# Altium footprint library Linear Technology PMIC-Switching Reg LT1074-LT8705.PcbLib: 146 footprints (part 6 of 10)
Each footprint in its own frame and in the unit in brackets; x right, y up, seen from the top. Pads: shape width x height; smd on the part's side, far side on the other; paste and mask are expansions set on the pad; w line width, h text height; cw(c..) or ccw(c..) is an arc to the next point about the centre after c.
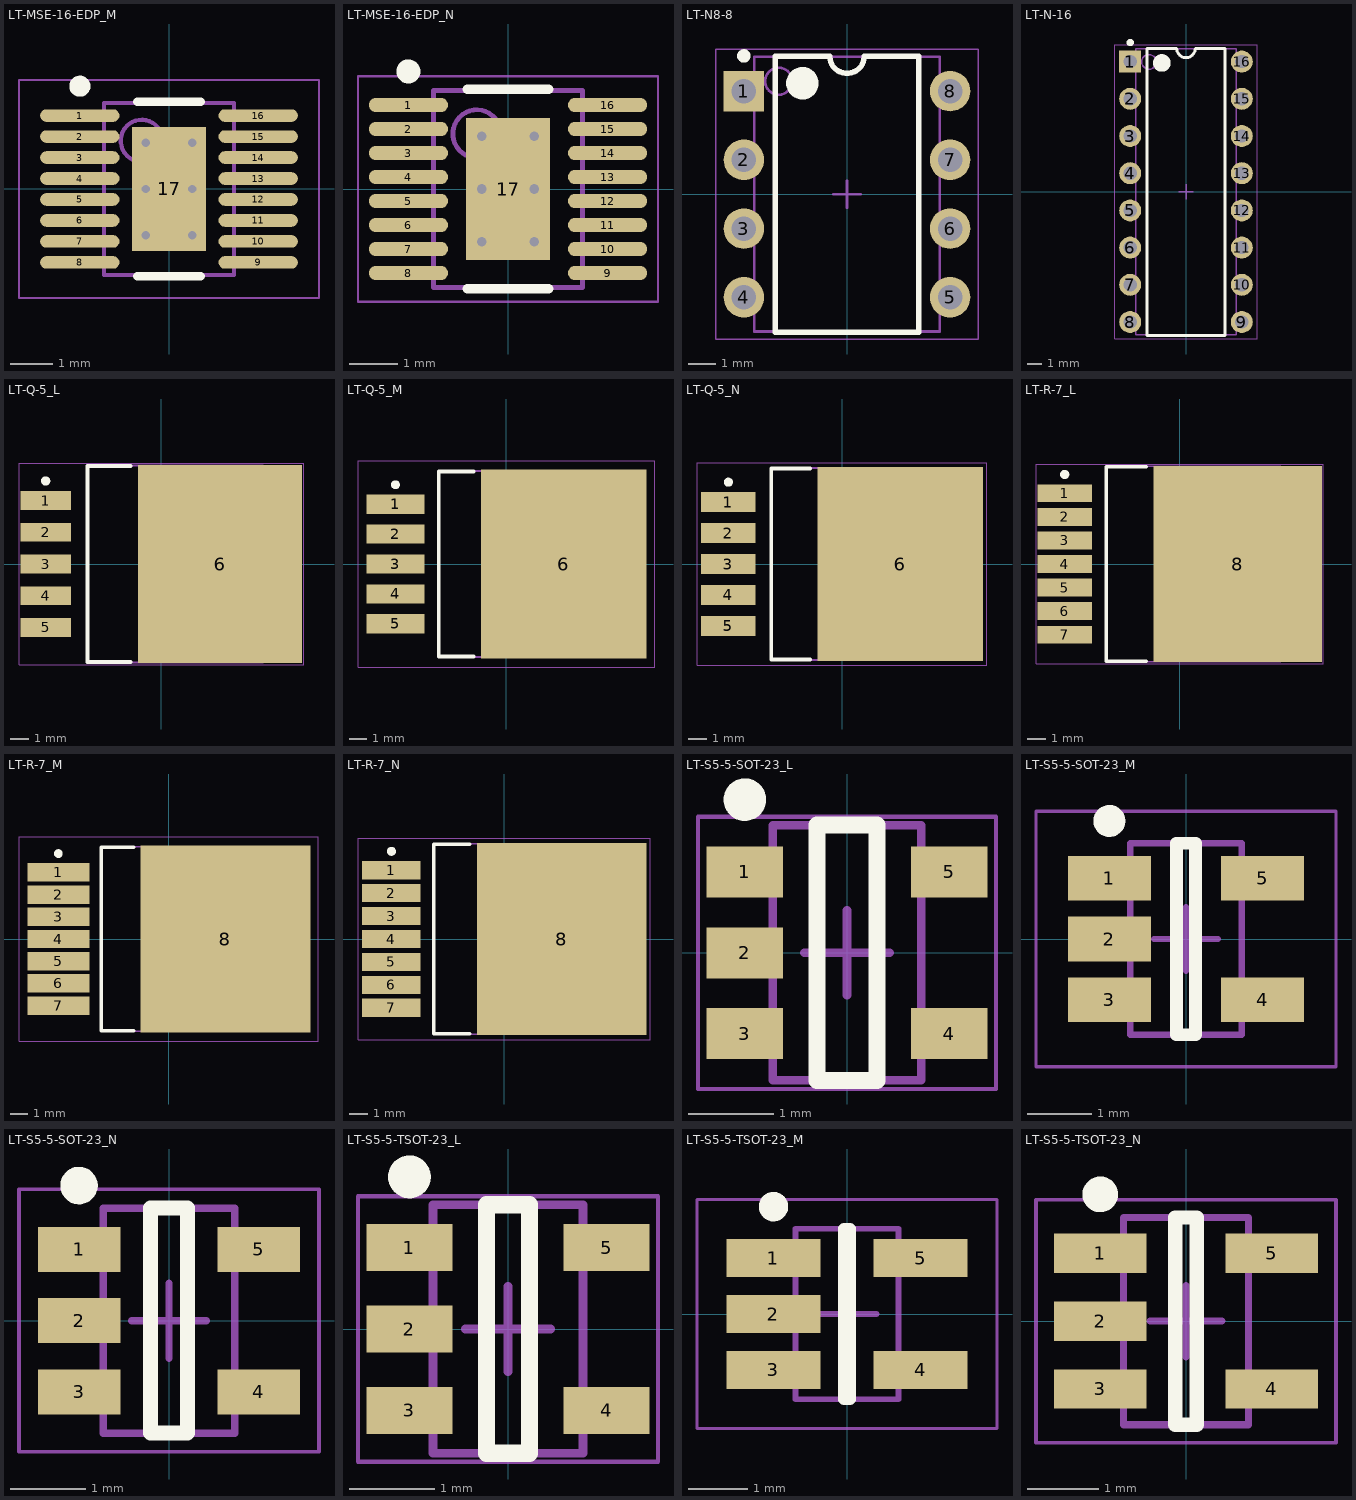
[diagram p5: the footprints below, top view; thin cyan lines are the x and y axes]

## LT-MSE-16-EDP_M [mm] "SOP, 16-Leads, Body 4.1x3.1mm, Pitch 0.5mm, Thermal Pad 2.95x1.76mm, IPC Low Density"
height 1.1
pads (17):
  oval 1.89x0.3 smd: 1(-2.125,1.75) 2(-2.125,1.25) 3(-2.125,0.75) 4(-2.125,0.25) 5(-2.125,-0.25) 6(-2.125,-0.75) 7(-2.125,-1.25) 8(-2.125,-1.75) 9(2.125,-1.75) 10(2.125,-1.25) 11(2.125,-0.75) 12(2.125,-0.25) 13(2.125,0.25) 14(2.125,0.75) 15(2.125,1.25) 16(2.125,1.75)
  rect 1.76x2.95 smd: 17(0,0)
via 0.55,-1.1 diameter 0.5 hole 0.2
via -0.55,-1.1 diameter 0.5 hole 0.2
via 0.55,0 diameter 0.5 hole 0.2
via -0.55,0 diameter 0.5 hole 0.2
via 0.55,1.1 diameter 0.5 hole 0.2
via -0.55,1.1 diameter 0.5 hole 0.2
Top Overlay:
  circle w0.25: c-2.125,2.45 r0.125
  lines w0.2: -0.755,-2.075 0.755,-2.075 ; -0.755,2.075 0.755,2.075
Mechanical 13:
  circle w0.1: c-0.65,1.15 r0.5
  lines w0.1: -1.55,-2.05 -1.55,2.05 1.55,2.05 1.55,-2.05 -1.55,-2.05
Mechanical 15:
  lines w0.05: -3.575,-2.6 -3.575,2.6 3.575,2.6 3.575,-2.6 -3.575,-2.6
  lines w0.1: -0.5,0 0.5,0 ; 0,-0.5 0,0.5
3D body: height 1.1, standoff 0.05, extent -1.55,-2.05 1.55,2.05

## LT-MSE-16-EDP_N [mm] "SOP, 16-Leads, Body 4.1x3.1mm, Pitch 0.5mm, Thermal Pad 2.95x1.76mm, IPC Medium Density"
height 1.1
pads (17):
  oval 1.65x0.3 smd: 1(-2.075,1.75) 2(-2.075,1.25) 3(-2.075,0.75) 4(-2.075,0.25) 5(-2.075,-0.25) 6(-2.075,-0.75) 7(-2.075,-1.25) 8(-2.075,-1.75) 9(2.075,-1.75) 10(2.075,-1.25) 11(2.075,-0.75) 12(2.075,-0.25) 13(2.075,0.25) 14(2.075,0.75) 15(2.075,1.25) 16(2.075,1.75)
  rect 1.76x2.95 smd: 17(0,0)
via -0.55,1.1 diameter 0.5 hole 0.2
via 0.55,1.1 diameter 0.5 hole 0.2
via -0.55,0 diameter 0.5 hole 0.2
via 0.55,0 diameter 0.5 hole 0.2
via -0.55,-1.1 diameter 0.5 hole 0.2
via 0.55,-1.1 diameter 0.5 hole 0.2
Top Overlay:
  circle w0.25: c-2.075,2.45 r0.125
  lines w0.2: -0.851,-2.075 0.851,-2.075 ; -0.851,2.075 0.851,2.075
Mechanical 13:
  circle w0.1: c-0.65,1.15 r0.5
  lines w0.1: -1.55,-2.05 -1.55,2.05 1.55,2.05 1.55,-2.05 -1.55,-2.05
Mechanical 15:
  lines w0.05: -3.125,-2.35 -3.125,2.35 3.125,2.35 3.125,-2.35 -3.125,-2.35
  lines w0.1: -0.5,0 0.5,0 ; 0,-0.5 0,0.5
3D body: height 1.1, standoff 0.05, extent -1.55,-2.05 1.55,2.05

## LT-N8-8 [mm] "DIP, 8-Leads, Body 10.15x6.85mm, Pitch 2.54mm"
height 3.94
pads (8):
  rect 1.5x1.5 hole 0.9: 1(-3.81,3.81)
  round 1.5 hole 0.9: 2(-3.81,1.27) 3(-3.81,-1.27) 4(-3.81,-3.81) 5(3.81,-3.81) 6(3.81,-1.27) 7(3.81,1.27) 8(3.81,3.81)
Top Overlay:
  circle w0.6: c-1.65,4.1 r0.3
  circle w0.25: c-3.81,5.11 r0.125
  lines w0.2: -2.65,-5.1 2.65,-5.1 2.65,5.1 0.635,5.1 cw(c0,5.1) -0.635,5.1 -2.65,5.1 -2.65,-5.1
Mechanical 13:
  circle w0.1: c-2.525,4.175 r0.5
  lines w0.1: -3.425,-5.075 3.425,-5.075 3.425,5.075 -3.425,5.075 -3.425,-5.075
Mechanical 15:
  lines w0.05: -4.85,-5.35 4.85,-5.35 4.85,5.35 -4.85,5.35 -4.85,-5.35
  lines w0.1: -0.5,0 0.5,0 ; 0,-0.5 0,0.5
3D body: height 3.94, standoff 0.51, extent -3.425,-5.075 3.425,5.075
3D body: height 0, standoff -1.6, extent 3.675,3.45 3.945,4.17
3D body: height 2.36, standoff 2.09, extent 3.425,3.31 3.945,4.31
3D body: height 2.09, standoff 0, extent 3.675,3.31 3.945,4.31
3D body: height 0, standoff -1.6, extent 3.675,0.91 3.945,1.63
3D body: height 2.36, standoff 2.09, extent 3.425,0.77 3.945,1.77
3D body: height 2.09, standoff 0, extent 3.675,0.77 3.945,1.77
3D body: height 0, standoff -1.6, extent 3.675,-1.63 3.945,-0.91
3D body: height 2.36, standoff 2.09, extent 3.425,-1.77 3.945,-0.77
3D body: height 2.09, standoff 0, extent 3.675,-1.77 3.945,-0.77
3D body: height 0, standoff -1.6, extent 3.675,-4.17 3.945,-3.45
3D body: height 2.36, standoff 2.09, extent 3.425,-4.31 3.945,-3.31
3D body: height 2.09, standoff 0, extent 3.675,-4.31 3.945,-3.31
3D body: height 0, standoff -1.6, extent -3.945,-4.17 -3.675,-3.45
3D body: height 2.36, standoff 2.09, extent -3.945,-4.31 -3.425,-3.31
3D body: height 2.09, standoff 0, extent -3.945,-4.31 -3.675,-3.31
3D body: height 0, standoff -1.6, extent -3.945,-1.63 -3.675,-0.91
3D body: height 2.36, standoff 2.09, extent -3.945,-1.77 -3.425,-0.77
3D body: height 2.09, standoff 0, extent -3.945,-1.77 -3.675,-0.77
3D body: height 0, standoff -1.6, extent -3.945,0.91 -3.675,1.63
3D body: height 2.36, standoff 2.09, extent -3.945,0.77 -3.425,1.77
3D body: height 2.09, standoff 0, extent -3.945,0.77 -3.675,1.77
3D body: height 0, standoff -1.6, extent -3.945,3.45 -3.675,4.17
3D body: height 2.36, standoff 2.09, extent -3.945,3.31 -3.425,4.31
3D body: height 2.09, standoff 0, extent -3.945,3.31 -3.675,4.31

## LT-N-16 [mm] "DIP, 16-Leads, Body 19.56x6.48mm, Pitch 2.54mm"
height 3.94
pads (16):
  rect 1.5x1.5 hole 0.9: 1(-3.81,8.89)
  round 1.5 hole 0.9: 2(-3.81,6.35) 3(-3.81,3.81) 4(-3.81,1.27) 5(-3.81,-1.27) 6(-3.81,-3.81) 7(-3.81,-6.35) 8(-3.81,-8.89) 9(3.81,-8.89) 10(3.81,-6.35) 11(3.81,-3.81) 12(3.81,-1.27) 13(3.81,1.27) 14(3.81,3.81) 15(3.81,6.35) 16(3.81,8.89)
Top Overlay:
  circle w0.25: c-3.81,10.19 r0.125
  circle w0.6: c-1.65,8.8 r0.3
  lines w0.2: -2.65,-9.8 -2.65,9.8 -0.635,9.8 ccw(c0,9.8) 0.635,9.8 2.65,9.8 2.65,-9.8 -2.65,-9.8
Mechanical 13:
  circle w0.1: c-2.525,8.875 r0.5
  lines w0.1: -3.425,-9.775 -3.425,9.775 3.425,9.775 3.425,-9.775 -3.425,-9.775
Mechanical 15:
  lines w0.05: -4.85,-10.05 -4.85,10.05 4.85,10.05 4.85,-10.05 -4.85,-10.05
  lines w0.1: -0.5,0 0.5,0 ; 0,-0.5 0,0.5
3D body: height 2.09, standoff 0, extent -3.945,8.39 -3.675,9.39
3D body: height 2.36, standoff 2.09, extent -3.945,8.39 -3.425,9.39
3D body: height 0, standoff -1.6, extent -3.945,8.53 -3.675,9.25
3D body: height 2.09, standoff 0, extent -3.945,5.85 -3.675,6.85
3D body: height 2.36, standoff 2.09, extent -3.945,5.85 -3.425,6.85
3D body: height 0, standoff -1.6, extent -3.945,5.99 -3.675,6.71
3D body: height 2.09, standoff 0, extent -3.945,3.31 -3.675,4.31
3D body: height 2.36, standoff 2.09, extent -3.945,3.31 -3.425,4.31
3D body: height 0, standoff -1.6, extent -3.945,3.45 -3.675,4.17
3D body: height 2.09, standoff 0, extent -3.945,0.77 -3.675,1.77
3D body: height 2.36, standoff 2.09, extent -3.945,0.77 -3.425,1.77
3D body: height 0, standoff -1.6, extent -3.945,0.91 -3.675,1.63
3D body: height 2.09, standoff 0, extent -3.945,-1.77 -3.675,-0.77
3D body: height 2.36, standoff 2.09, extent -3.945,-1.77 -3.425,-0.77
3D body: height 0, standoff -1.6, extent -3.945,-1.63 -3.675,-0.91
3D body: height 2.09, standoff 0, extent -3.945,-4.31 -3.675,-3.31
3D body: height 2.36, standoff 2.09, extent -3.945,-4.31 -3.425,-3.31
3D body: height 0, standoff -1.6, extent -3.945,-4.17 -3.675,-3.45
3D body: height 2.09, standoff 0, extent -3.945,-6.85 -3.675,-5.85
3D body: height 2.36, standoff 2.09, extent -3.945,-6.85 -3.425,-5.85
3D body: height 0, standoff -1.6, extent -3.945,-6.71 -3.675,-5.99
3D body: height 2.09, standoff 0, extent -3.945,-9.39 -3.675,-8.39
3D body: height 2.36, standoff 2.09, extent -3.945,-9.39 -3.425,-8.39
3D body: height 0, standoff -1.6, extent -3.945,-9.25 -3.675,-8.53
3D body: height 2.09, standoff 0, extent 3.675,-9.39 3.945,-8.39
3D body: height 2.36, standoff 2.09, extent 3.425,-9.39 3.945,-8.39
3D body: height 0, standoff -1.6, extent 3.675,-9.25 3.945,-8.53
3D body: height 2.09, standoff 0, extent 3.675,-6.85 3.945,-5.85
3D body: height 2.36, standoff 2.09, extent 3.425,-6.85 3.945,-5.85
3D body: height 0, standoff -1.6, extent 3.675,-6.71 3.945,-5.99
3D body: height 2.09, standoff 0, extent 3.675,-4.31 3.945,-3.31
3D body: height 2.36, standoff 2.09, extent 3.425,-4.31 3.945,-3.31
3D body: height 0, standoff -1.6, extent 3.675,-4.17 3.945,-3.45
3D body: height 2.09, standoff 0, extent 3.675,-1.77 3.945,-0.77
3D body: height 2.36, standoff 2.09, extent 3.425,-1.77 3.945,-0.77
3D body: height 0, standoff -1.6, extent 3.675,-1.63 3.945,-0.91
3D body: height 2.09, standoff 0, extent 3.675,0.77 3.945,1.77
3D body: height 2.36, standoff 2.09, extent 3.425,0.77 3.945,1.77
3D body: height 0, standoff -1.6, extent 3.675,0.91 3.945,1.63
3D body: height 2.09, standoff 0, extent 3.675,3.31 3.945,4.31
3D body: height 2.36, standoff 2.09, extent 3.425,3.31 3.945,4.31
3D body: height 0, standoff -1.6, extent 3.675,3.45 3.945,4.17
3D body: height 2.09, standoff 0, extent 3.675,5.85 3.945,6.85
3D body: height 2.36, standoff 2.09, extent 3.425,5.85 3.945,6.85
3D body: height 0, standoff -1.6, extent 3.675,5.99 3.945,6.71
3D body: height 2.09, standoff 0, extent 3.675,8.39 3.945,9.39
3D body: height 2.36, standoff 2.09, extent 3.425,8.39 3.945,9.39
3D body: height 0, standoff -1.6, extent 3.675,8.53 3.945,9.25
3D body: height 3.94, standoff 0.51, extent -3.425,-9.775 3.425,9.775

## LT-Q-5_L [mm] "DPAK, 5-Leads, Body 10.22x8.89mm, Pitch 1.702mm, IPC High Density"
height 4.78
pads (6):
  rect 2.7x1 smd: 1(-6.2,3.4) 2(-6.2,1.7)
  rect 2.7x1 smd mask+0.1: 3(-6.2,0) 4(-6.2,-1.7) 5(-6.2,-3.4)
  rect 8.8x10.6 smd mask+0.1: 6(3.15,0)
Top Overlay:
  circle w0.25: c-6.2,4.45 r0.125
  lines w0.2: -1.65,-5.25 -3.95,-5.25 -3.95,5.25 -1.65,5.25
Mechanical 13:
  lines w0.1: -3.95,-5.275 -3.95,5.275 5.45,5.275 5.45,-5.275 -3.95,-5.275
Mechanical 15:
  lines w0.05: -7.625,-5.4 -7.625,5.4 7.625,5.4 7.625,-5.4 -7.625,-5.4
  lines w0.1: -0.5,0 0.5,0 ; 0,-0.5 0,0.5
3D body: height 4.78, standoff 0, extent -3.95,-5.275 5.45,5.275

## LT-Q-5_M [mm] "DPAK, 5-Leads, Body 10.22x8.89mm, Pitch 1.702mm, IPC Low Density"
height 4.78
pads (6):
  rect 3.3x1.1 smd: 1(-6.3,3.4) 2(-6.3,1.7) 3(-6.3,0) 4(-6.3,-1.7) 5(-6.3,-3.4)
  rect 9.4x10.7 smd: 6(3.25,0)
Top Overlay:
  circle w0.25: c-6.3,4.5 r0.125
  lines w0.2: -1.85,-5.25 -3.85,-5.25 -3.85,5.25 -1.85,5.25
Mechanical 13:
  lines w0.1: -3.85,-5.275 5.55,-5.275 5.55,5.275 -3.85,5.275 -3.85,-5.275
Mechanical 15:
  lines w0.05: -8.425,-5.85 8.425,-5.85 8.425,5.85 -8.425,5.85 -8.425,-5.85
  lines w0.1: -0.5,0 0.5,0 ; 0,-0.5 0,0.5
3D body: height 4.78, standoff 0, extent -3.85,-5.275 5.55,5.275

## LT-Q-5_N [mm] "DPAK, 5-Leads, Body 10.22x8.89mm, Pitch 1.702mm, IPC Medium Density"
height 4.78
pads (6):
  rect 3x1.1 smd: 1(-6.25,3.4) 2(-6.25,1.7) 3(-6.25,0) 4(-6.25,-1.7) 5(-6.25,-3.4)
  rect 9.1x10.65 smd: 6(3.2,0)
Top Overlay:
  circle w0.25: c-6.25,4.5 r0.125
  lines w0.2: -1.75,-5.25 -3.9,-5.25 -3.9,5.25 -1.75,5.25
Mechanical 13:
  lines w0.1: -3.9,-5.275 5.5,-5.275 5.5,5.275 -3.9,5.275 -3.9,-5.275
Mechanical 15:
  lines w0.05: -7.975,-5.575 7.975,-5.575 7.975,5.575 -7.975,5.575 -7.975,-5.575
  lines w0.1: -0.5,0 0.5,0 ; 0,-0.5 0,0.5
3D body: height 4.78, standoff 0, extent -3.9,-5.275 5.5,5.275

## LT-R-7_L [mm] "DPAK, 7-Leads, Body 10.224x8.89mm, Pitch 1.27mm, IPC High Density"
height 4.58
pads (8):
  rect 2.95x0.95 smd: 1(-6.2,3.81) 2(-6.2,2.54) 3(-6.2,1.27) 4(-6.2,0) 5(-6.2,-1.27) 6(-6.2,-2.54) 7(-6.2,-3.81)
  rect 9.1x10.6 smd: 8(3.15,0)
Top Overlay:
  circle w0.25: c-6.2,4.835 r0.125
  lines w0.2: -1.8,-5.25 -3.95,-5.25 -3.95,5.25 -1.8,5.25
Mechanical 13:
  lines w0.1: -3.95,-5.275 -3.95,5.275 5.45,5.275 5.45,-5.275 -3.95,-5.275
Mechanical 15:
  lines w0.05: -7.75,-5.4 -7.75,5.4 7.75,5.4 7.75,-5.4 -7.75,-5.4
  lines w0.1: -0.5,0 0.5,0 ; 0,-0.5 0,0.5
3D body: height 4.58, standoff 0, extent -3.95,-5.275 5.45,5.275

## LT-R-7_M [mm] "DPAK, 7-Leads, Body 10.224x8.89mm, Pitch 1.27mm, IPC Low Density"
height 4.58
pads (8):
  rect 3.55x1.05 smd: 1(-6.3,3.81) 2(-6.3,2.54) 3(-6.3,1.27) 4(-6.3,0) 5(-6.3,-1.27) 6(-6.3,-2.54) 7(-6.3,-3.81)
  rect 9.7x10.7 smd: 8(3.25,0)
Top Overlay:
  circle w0.25: c-6.3,4.885 r0.125
  lines w0.2: -2,-5.25 -3.85,-5.25 -3.85,5.25 -2,5.25
Mechanical 13:
  lines w0.1: -3.85,-5.275 -3.85,5.275 5.55,5.275 5.55,-5.275 -3.85,-5.275
Mechanical 15:
  lines w0.05: -8.55,-5.85 -8.55,5.85 8.55,5.85 8.55,-5.85 -8.55,-5.85
  lines w0.1: -0.5,0 0.5,0 ; 0,-0.5 0,0.5
3D body: height 4.58, standoff 0, extent -3.85,-5.275 5.55,5.275

## LT-R-7_N [mm] "DPAK, 7-Leads, Body 10.224x8.89mm, Pitch 1.27mm, IPC Medium Density"
height 4.58
pads (8):
  rect 3.25x1 smd: 1(-6.25,3.81) 2(-6.25,2.54) 3(-6.25,1.27) 4(-6.25,0) 5(-6.25,-1.27) 6(-6.25,-2.54) 7(-6.25,-3.81)
  rect 9.4x10.65 smd: 8(3.2,0)
Top Overlay:
  circle w0.25: c-6.25,4.86 r0.125
  lines w0.2: -1.9,-5.25 -3.9,-5.25 -3.9,5.25 -1.9,5.25
Mechanical 13:
  lines w0.1: -3.9,-5.275 5.5,-5.275 5.5,5.275 -3.9,5.275 -3.9,-5.275
Mechanical 15:
  lines w0.05: -8.1,-5.575 8.1,-5.575 8.1,5.575 -8.1,5.575 -8.1,-5.575
  lines w0.1: -0.5,0 0.5,0 ; 0,-0.5 0,0.5
3D body: height 4.58, standoff 0, extent -3.9,-5.275 5.5,5.275

## LT-S5-5-SOT-23_L [mm] "SOT23, 5-Leads, Body 3x1.75mm, Pitch 0.95mm, IPC High Density"
height 1.45
pads (5):
  rect 0.9x0.6 smd: 1(-1.2,0.95) 2(-1.2,0) 3(-1.2,-0.95) 4(1.2,-0.95) 5(1.2,0.95)
Top Overlay:
  circle w0.25: c-1.2,1.8 r0.125
  lines w0.2: -0.35,-1.5 0.35,-1.5 0.35,1.5 -0.35,1.5 -0.35,-1.5
Mechanical 13:
  lines w0.1: -0.875,-1.5 -0.875,1.5 0.875,1.5 0.875,-1.5 -0.875,-1.5
Mechanical 15:
  lines w0.05: -1.75,-1.6 -1.75,1.6 1.75,1.6 1.75,-1.6 -1.75,-1.6
  lines w0.1: -0.5,0 0.5,0 ; 0,-0.5 0,0.5
3D body: height 1.45, standoff 0, extent -0.875,-1.5 0.875,1.5

## LT-S5-5-SOT-23_M [mm] "SOT23, 5-Leads, Body 3x1.75mm, Pitch 0.95mm, IPC Low Density"
height 1.45
pads (5):
  rect 1.3x0.7 smd: 1(-1.2,0.95) 2(-1.2,0) 3(-1.2,-0.95) 4(1.2,-0.95) 5(1.2,0.95)
Top Overlay:
  circle w0.25: c-1.2,1.85 r0.125
  lines w0.2: -0.15,-1.5 0.15,-1.5 0.15,1.5 -0.15,1.5 -0.15,-1.5
Mechanical 13:
  lines w0.1: -0.875,-1.5 0.875,-1.5 0.875,1.5 -0.875,1.5 -0.875,-1.5
Mechanical 15:
  lines w0.05: -2.35,-2 2.35,-2 2.35,2 -2.35,2 -2.35,-2
  lines w0.1: -0.5,0 0.5,0 ; 0,-0.5 0,0.5
3D body: height 1.45, standoff 0, extent -0.875,-1.5 0.875,1.5

## LT-S5-5-SOT-23_N [mm] "SOT23, 5-Leads, Body 3x1.75mm, Pitch 0.95mm, IPC Medium Density"
height 1.45
pads (5):
  rect 1.1x0.6 smd: 1(-1.2,0.95) 2(-1.2,0) 3(-1.2,-0.95) 4(1.2,-0.95) 5(1.2,0.95)
Top Overlay:
  circle w0.25: c-1.2,1.8 r0.125
  lines w0.2: -0.25,-1.5 0.25,-1.5 0.25,1.5 -0.25,1.5 -0.25,-1.5
Mechanical 13:
  lines w0.1: -0.875,-1.5 -0.875,1.5 0.875,1.5 0.875,-1.5 -0.875,-1.5
Mechanical 15:
  lines w0.05: -2,-1.75 -2,1.75 2,1.75 2,-1.75 -2,-1.75
  lines w0.1: -0.5,0 0.5,0 ; 0,-0.5 0,0.5
3D body: height 1.45, standoff 0, extent -0.875,-1.5 0.875,1.5

## LT-S5-5-TSOT-23_L [mm] "SOT23, 5-Leads, Body 2.90x1.63mm, Pitch 0.95mm, IPC High Density"
height 1
pads (5):
  rect 1x0.55 smd: 1(-1.15,0.95) 2(-1.15,0) 3(-1.15,-0.95) 4(1.15,-0.95) 5(1.15,0.95)
Top Overlay:
  circle w0.25: c-1.15,1.775 r0.125
  lines w0.2: -0.25,-1.45 0.25,-1.45 0.25,1.45 -0.25,1.45 -0.25,-1.45
Mechanical 13:
  lines w0.1: -0.875,-1.45 -0.875,1.45 0.875,1.45 0.875,-1.45 -0.875,-1.45
Mechanical 15:
  lines w0.05: -1.75,-1.55 -1.75,1.55 1.75,1.55 1.75,-1.55 -1.75,-1.55
  lines w0.1: -0.5,0 0.5,0 ; 0,-0.5 0,0.5
3D body: height 1, standoff 0.01, extent -0.875,-1.45 0.875,1.45

## LT-S5-5-TSOT-23_M [mm] "SOT23, 5-Leads, Body 2.90x1.63mm, Pitch 0.95mm, IPC Low Density"
height 1
pads (5):
  rect 1.6x0.65 smd: 1(-1.25,0.95) 2(-1.25,0) 3(-1.25,-0.95) 4(1.25,-0.95) 5(1.25,0.95)
Top Overlay:
  circle w0.25: c-1.25,1.825 r0.125
  lines w0.2: -0.05,-1.45 0.05,-1.45 0.05,1.45 -0.05,1.45 -0.05,-1.45
Mechanical 13:
  lines w0.1: -0.875,-1.45 -0.875,1.45 0.875,1.45 0.875,-1.45 -0.875,-1.45
Mechanical 15:
  lines w0.05: -2.55,-1.95 -2.55,1.95 2.55,1.95 2.55,-1.95 -2.55,-1.95
  lines w0.1: -0.5,0 0.5,0 ; 0,-0.5 0,0.5
3D body: height 1, standoff 0.01, extent -0.875,-1.45 0.875,1.45

## LT-S5-5-TSOT-23_N [mm] "SOT23, 5-Leads, Body 2.90x1.63mm, Pitch 0.95mm, IPC Medium Density"
height 1
pads (5):
  rect 1.3x0.55 smd: 1(-1.2,0.95) 2(-1.2,0) 3(-1.2,-0.95) 4(1.2,-0.95) 5(1.2,0.95)
Top Overlay:
  circle w0.25: c-1.2,1.775 r0.125
  lines w0.2: -0.15,-1.45 0.15,-1.45 0.15,1.45 -0.15,1.45 -0.15,-1.45
Mechanical 13:
  lines w0.1: -0.875,-1.45 -0.875,1.45 0.875,1.45 0.875,-1.45 -0.875,-1.45
Mechanical 15:
  lines w0.05: -2.1,-1.7 -2.1,1.7 2.1,1.7 2.1,-1.7 -2.1,-1.7
  lines w0.1: -0.5,0 0.5,0 ; 0,-0.5 0,0.5
3D body: height 1, standoff 0.01, extent -0.875,-1.45 0.875,1.45